# Altium integrated library SN74ALS138ADR.IntLib: 1 symbol
Pins are listed as number, name and electrical type; pins without a type are passive.

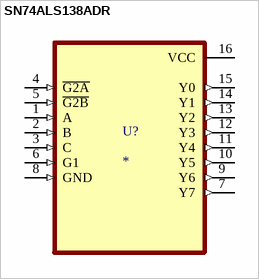
[diagram p0: symbol SN74ALS138ADR]

## SN74ALS138ADR
designator U?
MP: SN74ALS138ADR; Package: None; Price: None; Value: *; Availability: Unavailable
footprint SOIC127P600X175-16N
pins: 1 A (in), 2 B (in), 3 C (in), 4 ~{G2A} (in), 5 ~{G2B} (in), 6 G1 (in), 7 Y7 (out), 8 GND (in), 9 Y6 (out), 10 Y5 (out), 11 Y4 (out), 12 Y3 (out), 13 Y2 (out), 14 Y1 (out), 15 Y0 (out), 16 VCC (power)